# EAGLE library part NIXIE_TUBE_SOCKET (library Nixie_Tube_Socket_Eagle_Library)
WWW.NIXIETESTER.COM
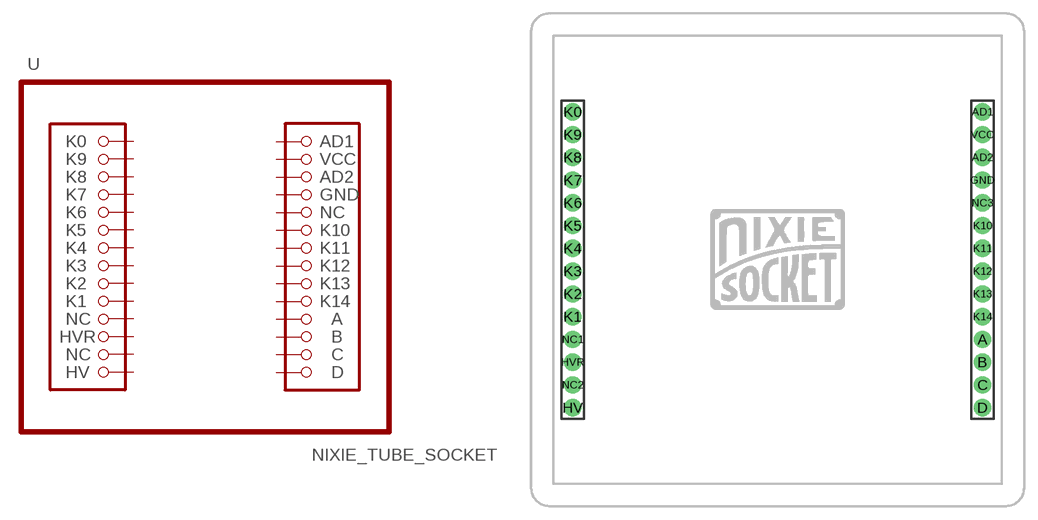
[diagram p0: symbol with the pads of NIXIE_TUBE_SOCKET; footprint NIXIE_TUBE_SOCKET]

Designator prefix -

## NIXIE_TUBE_SOCKET  [NIXIE_TUBE_SOCKET]
A  A  pas
AD1  AD1  pas
AD2  AD2  pas
B  B  pas
C  C  pas
D  D  pas
GND  GND  pas
HV  HV  pas
HVR  HVR  pas
K0  K0  pas
K1  K1  pas
K2  K2  pas
K3  K3  pas
K4  K4  pas
K5  K5  pas
K6  K6  pas
K7  K7  pas
K8  K8  pas
K9  K9  pas
K10  K10  pas
K11  K11  pas
K12  K12  pas
K13  K13  pas
K14  K14  pas
NC1  NC1  pas
NC2  NC2  pas
NC3  NC3  pas
VCC  VCC  pas

## Footprint NIXIE_TUBE_SOCKET (pad centres in mm)
WWW.NIXIETESTER.COM
drill 1 pad 1.93: A 22.86,-8.89; AD1 22.86,16.51; AD2 22.86,11.43; B 22.86,-11.43; C 22.86,-13.97; D 22.86,-16.51; GND 22.86,8.89; HV -22.86,-16.51; HVR -22.86,-11.43; K0 -22.86,16.51; K1 -22.86,-6.35; K2 -22.86,-3.81; K3 -22.86,-1.27; K4 -22.86,1.27; K5 -22.86,3.81; K6 -22.86,6.35; K7 -22.86,8.89; K8 -22.86,11.43; K9 -22.86,13.97; K10 22.86,3.81; K11 22.86,1.27; K12 22.86,-1.27; K13 22.86,-3.81; K14 22.86,-6.35; NC1 -22.86,-8.89; NC2 -22.86,-13.97; NC3 22.86,6.35; VCC 22.86,13.97